# Altium footprint library MCL1GS.PcbLib: 1 footprints
Each footprint in its own frame and in the unit in brackets; x right, y up, seen from the top. Pads: shape width x height; smd on the part's side, far side on the other; paste and mask are expansions set on the pad; w line width, h text height; cw(c..) or ccw(c..) is an arc to the next point about the centre after c.
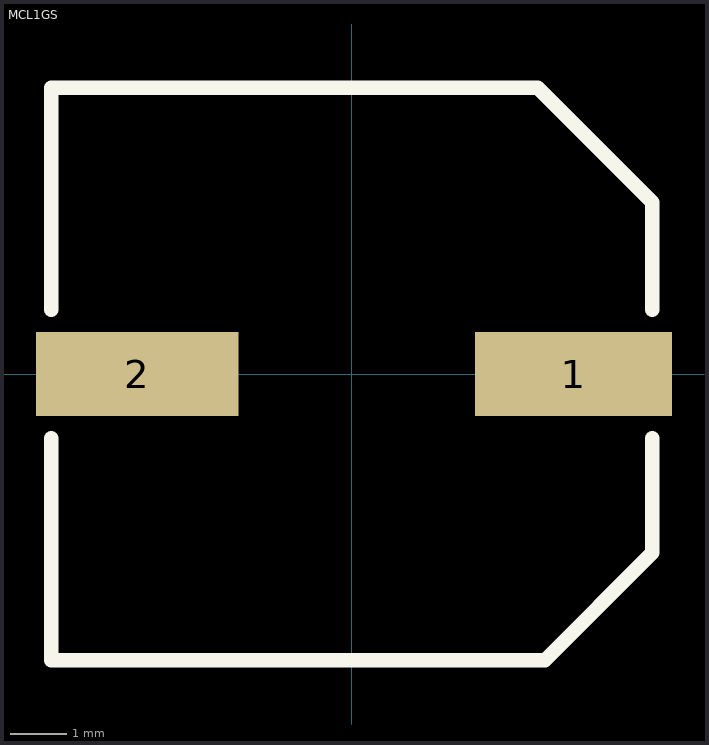
[diagram p0: the footprint, top view; thin cyan lines are the x and y axes]

## MCL1GS [mm]
height 10
pads (2):
  rect 3.5x1.5 smd: 1(3.937,0)
  rect 3.6x1.5 smd: 2(-3.81,0)
Top Overlay:
  lines w0.254: -5.334,-1.143 -5.334,-5.08 3.429,-5.08 5.334,-3.175 5.334,-1.143 ; -5.334,1.143 -5.334,5.08 3.302,5.08 5.334,3.048 5.334,1.143
3D body: height 10.41, standoff 0, extent -5.5,-5.2 5.5,5.2